# EAGLE library part TCMT4100 (library optocoupler)
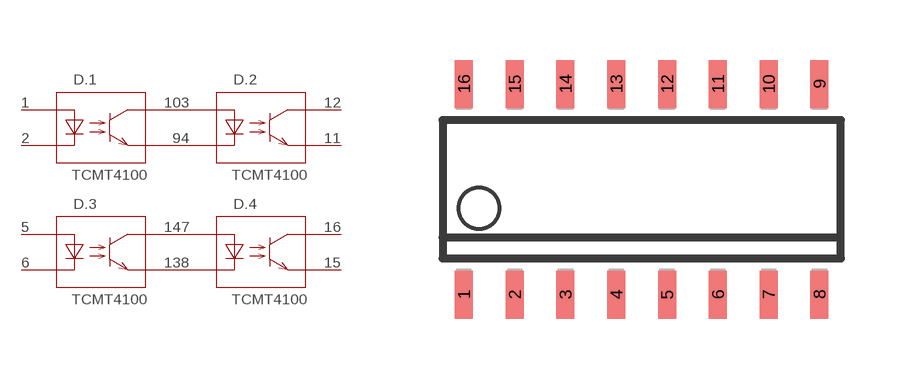
[diagram p0: symbol with the pads of SO16; footprint SO16]

Designator prefix D; gates .1=OC .2=OC .3=OC .4=OC

## TCMT4100  [SO16]
1  .1:DA  pas
2  .1:DC  pas
3  .2:DA  pas
4  .2:DC  pas
5  .3:DA  pas
6  .3:DC  pas
7  .4:DA  pas
8  .4:DC  pas
9  .1:TE
10  .1:TC
11  .2:TE
12  .2:TC
13  .3:TE
14  .3:TC
15  .4:TE
16  .4:TC

## Footprint SO16 (pad centres in mm)
SMALL OUTLINE INTEGRATED CIRCUIT body 3.9 mm/JEDEC MS-012AC
smd 0.45 x 1.2: 1 -4.381,-2.631; 2 -3.111,-2.631; 3 -1.841,-2.631; 4 -0.572,-2.631; 5 0.699,-2.631; 6 1.968,-2.631; 7 3.239,-2.631; 8 4.508,-2.631; 9 4.508,2.631; 10 3.239,2.631; 11 1.968,2.631; 12 0.699,2.631; 13 -0.572,2.631; 14 -1.841,2.631; 15 -3.111,2.631; 16 -4.381,2.631